# EAGLE library part BATT_PROTECT_IC (library IC & Transistor)
Single Cell LiIo/LiPo Battery Protection IC
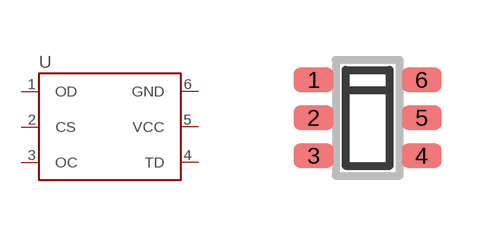
[diagram p77: symbol with the pads of SOT-23-6; footprint SOT-23-6]

Designator prefix U

## BATT_PROTECT_IC_DW01 (CYTRON-PC: S-IC-DW01AG-SOT23-6; DESC: Single Cell LiIo/LiPo Battery Protection IC OD 2.4V; MF: Fortune Semiconductor; MPN: DW01A-G), BATT_PROTECT_IC_FS312F-G (DESC: Single Cell LiIo/LiPo Battery Protection IC OD 2.9V; MF: Fortune Semiconductor; MPN: FS312F-G)  [SOT-23-6]
1  OD
2  CS
3  OC
4  TD
5  VCC
6  GND

## Footprint SOT-23-6 (pad centres in mm)
Small Outline Transistor - 6 Pins (SOT-23-6). Size: 2.9 x 1.6mm Modified by: Wai Weng
smd 1 x 0.6: 1 -1.35,0.95; 2 -1.35,0; 3 -1.35,-0.95; 4 1.35,-0.95; 5 1.35,0; 6 1.35,0.95